# Altium integrated library 1-1879462-1.IntLib: 1 symbol
Pins are listed as number, name and electrical type; pins without a type are passive.

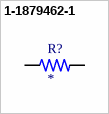
[diagram p0: symbol 1-1879462-1]

## 1-1879462-1
designator R?
RL73H 2B R10 1% 5K RL; MP: 1-1879462-1; Package: None; Price: None; Value: *; Availability: Unavailable
footprint RESC3115X65N
pins: 1, 2